# Altium footprint library Mercury_AD_BaseBoard_PCBLIB.PcbLib: 62 footprints (part 2 of 4)
Each footprint in its own frame and in the unit in brackets; x right, y up, seen from the top. Pads: shape width x height; smd on the part's side, far side on the other; paste and mask are expansions set on the pad; w line width, h text height; cw(c..) or ccw(c..) is an arc to the next point about the centre after c.
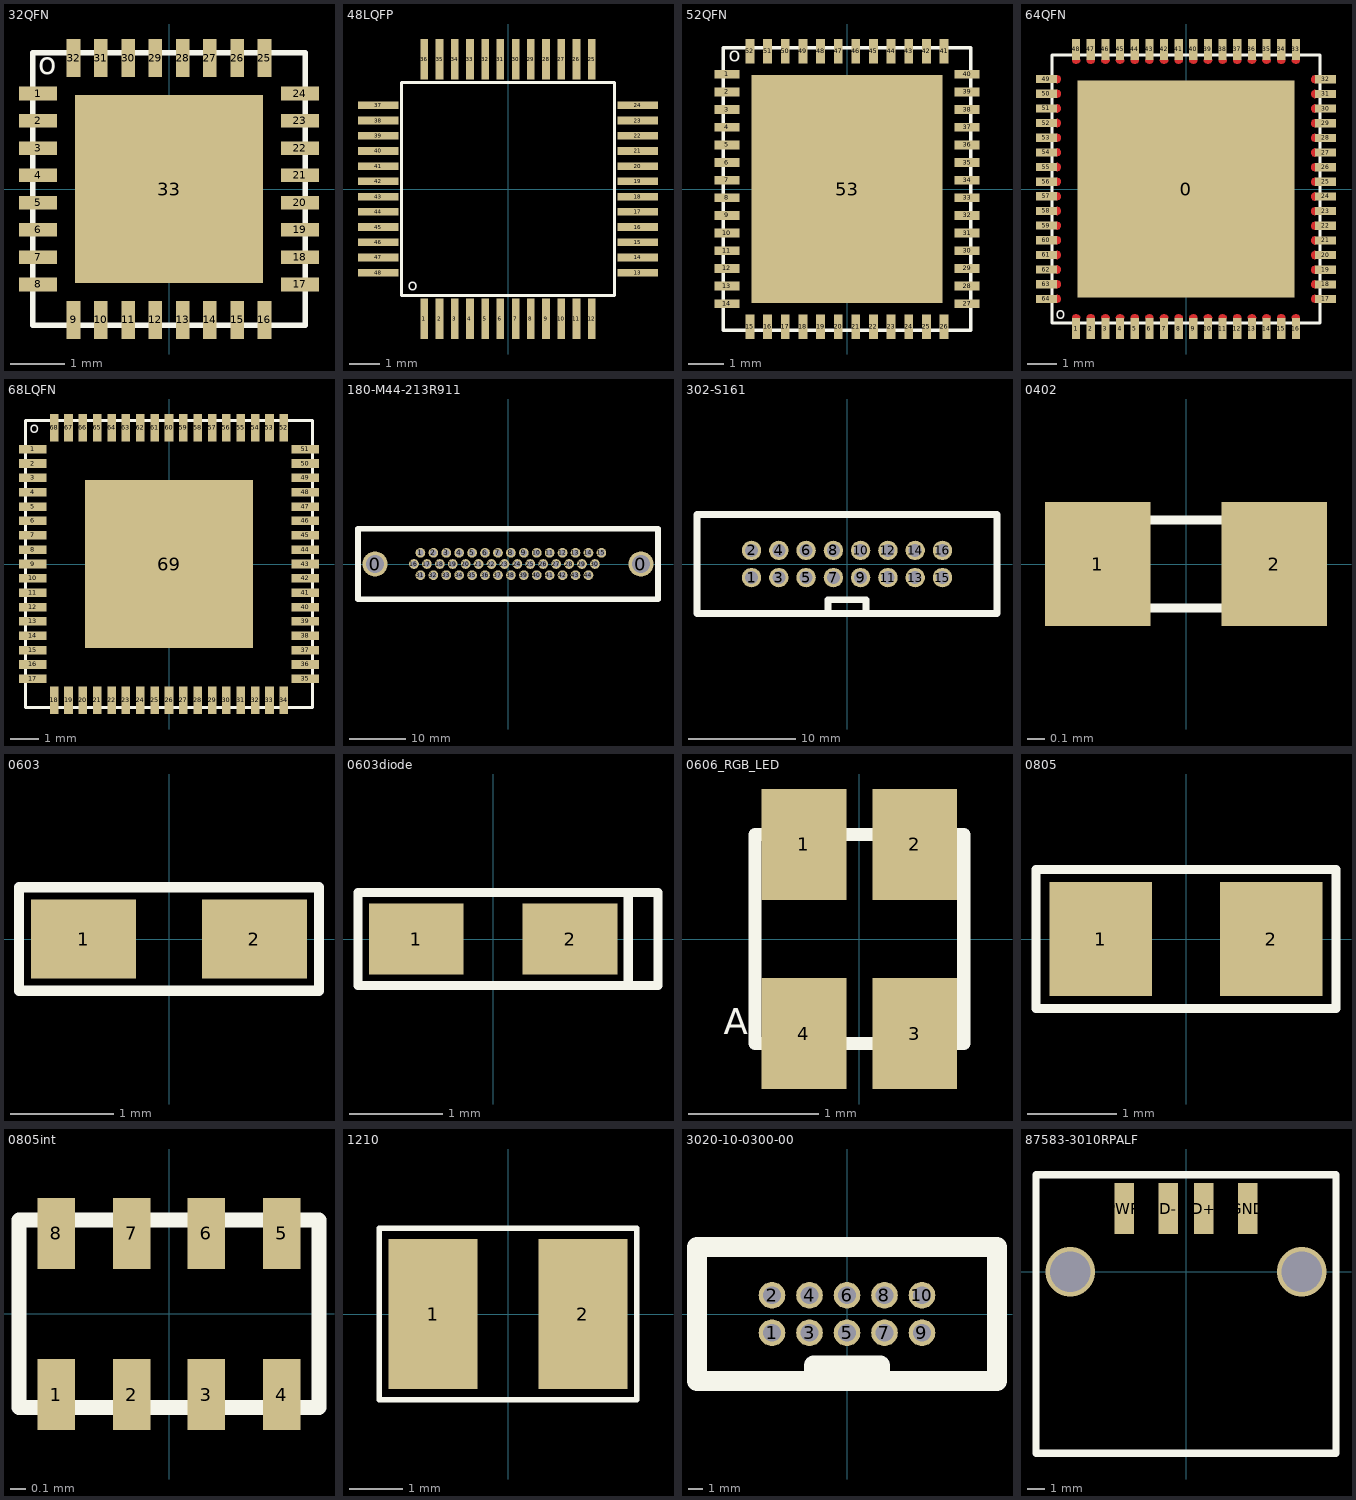
[diagram p1: the footprints below, top view; thin cyan lines are the x and y axes]

## 32QFN [mm]
pads (33):
  rect 0.7x0.25 smd mask+0.07: 1(-2.4,1.75) 2(-2.4,1.25) 3(-2.4,0.75) 4(-2.4,0.25) 5(-2.4,-0.25) 6(-2.4,-0.75) 7(-2.4,-1.25) 8(-2.4,-1.75) 17(2.4,-1.75) 18(2.4,-1.25) 19(2.4,-0.75) 20(2.4,-0.25) 21(2.4,0.25) 22(2.4,0.75) 23(2.4,1.25) 24(2.4,1.75)
  rect 0.25x0.7 smd mask+0.07: 9(-1.75,-2.4) 10(-1.25,-2.4) 11(-0.75,-2.4) 12(-0.25,-2.4) 13(0.25,-2.4) 14(0.75,-2.4) 15(1.25,-2.4) 16(1.75,-2.4) 25(1.75,2.4) 26(1.25,2.4) 27(0.75,2.4) 28(0.25,2.4) 29(-0.25,2.4) 30(-0.75,2.4) 31(-1.25,2.4) 32(-1.75,2.4)
  rect 3.45x3.45 smd mask+0.07: 33(0,0)
Top Overlay:
  lines w0.1: -2.5,-2.5 -2.5,2.5 2.5,2.5 2.5,-2.5 -2.5,-2.5
  text "o" at -2.4,2.1 h0.4

## 48LQFP [mm]
pads (48):
  rect 0.25x1.33 smd mask+0.07: 1(-2.75,-4.265) 2(-2.25,-4.265) 3(-1.75,-4.265) 4(-1.25,-4.265) 5(-0.75,-4.265) 6(-0.25,-4.265) 7(0.25,-4.265) 8(0.75,-4.265) 9(1.25,-4.265) 10(1.75,-4.265) 11(2.25,-4.265) 12(2.75,-4.265) 25(2.75,4.265) 26(2.25,4.265) 27(1.75,4.265) 28(1.25,4.265) 29(0.75,4.265) 30(0.25,4.265) 31(-0.25,4.265) 32(-0.75,4.265) 33(-1.25,4.265) 34(-1.75,4.265) 35(-2.25,4.265) 36(-2.75,4.265)
  rect 1.33x0.25 smd mask+0.07: 13(4.265,-2.75) 14(4.265,-2.25) 15(4.265,-1.75) 16(4.265,-1.25) 17(4.265,-0.75) 18(4.265,-0.25) 19(4.265,0.25) 20(4.265,0.75) 21(4.265,1.25) 22(4.265,1.75) 23(4.265,2.25) 24(4.265,2.75) 37(-4.265,2.75) 38(-4.265,2.25) 39(-4.265,1.75) 40(-4.265,1.25) 41(-4.265,0.75) 42(-4.265,0.25) 43(-4.265,-0.25) 44(-4.265,-0.75) 45(-4.265,-1.25) 46(-4.265,-1.75) 47(-4.265,-2.25) 48(-4.265,-2.75)
Top Overlay:
  lines w0.1: -3.5,-3.5 3.5,-3.5 3.5,3.5 -3.5,3.5 -3.5,-3.5
  text "o" at -3.3,-3.35 h0.4

## 52QFN [mm]
pads (53):
  rect 0.7x0.25 smd mask+0.07: 1(-3.4,3.25) 2(-3.4,2.75) 3(-3.4,2.25) 4(-3.4,1.75) 5(-3.4,1.25) 6(-3.4,0.75) 7(-3.4,0.25) 8(-3.4,-0.25) 9(-3.4,-0.75) 10(-3.4,-1.25) 11(-3.4,-1.75) 12(-3.4,-2.25) 13(-3.4,-2.75) 14(-3.4,-3.25) 27(3.4,-3.25) 28(3.4,-2.75) 29(3.4,-2.25) 30(3.4,-1.75) 31(3.4,-1.25) 32(3.4,-0.75) 33(3.4,-0.25) 34(3.4,0.25) 35(3.4,0.75) 36(3.4,1.25) 37(3.4,1.75) 38(3.4,2.25) 39(3.4,2.75) 40(3.4,3.25)
  rect 0.25x0.7 smd mask+0.07: 15(-2.75,-3.9) 16(-2.25,-3.9) 17(-1.75,-3.9) 18(-1.25,-3.9) 19(-0.75,-3.9) 20(-0.25,-3.9) 21(0.25,-3.9) 22(0.75,-3.9) 23(1.25,-3.9) 24(1.75,-3.9) 25(2.25,-3.9) 26(2.75,-3.9) 41(2.75,3.9) 42(2.25,3.9) 43(1.75,3.9) 44(1.25,3.9) 45(0.75,3.9) 46(0.25,3.9) 47(-0.25,3.9) 48(-0.75,3.9) 49(-1.25,3.9) 50(-1.75,3.9) 51(-2.25,3.9) 52(-2.75,3.9)
  rect 5.41x6.45 smd mask+0.07: 53(0,0)
Top Overlay:
  lines w0.1: -3.5,-4 3.5,-4 3.5,4 -3.5,4 -3.5,-4
  text "o" at -3.35,3.6 h0.4

## 64QFN [mm]
pads (65):
  rect 7.4x7.4 smd mask+0.07: 0(0,0)
  rect 0.28x0.71 smd mask+0.07: 1(-3.75,-4.765) 2(-3.25,-4.765) 3(-2.75,-4.765) 4(-2.25,-4.765) 5(-1.75,-4.765) 6(-1.25,-4.765) 7(-0.75,-4.765) 8(-0.25,-4.765) 9(0.25,-4.765) 10(0.75,-4.765) 11(1.25,-4.765) 12(1.75,-4.765) 13(2.25,-4.765) 14(2.75,-4.765) 15(3.25,-4.765) 16(3.75,-4.765) 33(3.75,4.765) 34(3.25,4.765) 35(2.75,4.765) 36(2.25,4.765) 37(1.75,4.765) 38(1.25,4.765) 39(0.75,4.765) 40(0.25,4.765) 41(-0.25,4.765) 42(-0.75,4.765) 43(-1.25,4.765) 44(-1.75,4.765) 45(-2.25,4.765) 46(-2.75,4.765) 47(-3.25,4.765) 48(-3.75,4.765)
  rect 0.71x0.28 smd mask+0.07: 17(4.765,-3.75) 18(4.765,-3.255) 19(4.765,-2.755) 20(4.765,-2.255) 21(4.765,-1.755) 22(4.765,-1.255) 23(4.765,-0.755) 24(4.765,-0.255) 25(4.765,0.245) 26(4.765,0.745) 27(4.765,1.245) 28(4.765,1.745) 29(4.765,2.245) 30(4.765,2.745) 31(4.765,3.245) 32(4.765,3.745) 49(-4.765,3.75) 50(-4.765,3.25) 51(-4.765,2.75) 52(-4.765,2.25) 53(-4.765,1.75) 54(-4.765,1.25) 55(-4.765,0.75) 56(-4.765,0.25) 57(-4.765,-0.25) 58(-4.765,-0.75) 59(-4.765,-1.25) 60(-4.765,-1.75) 61(-4.765,-2.25) 62(-4.765,-2.75) 63(-4.765,-3.25) 64(-4.765,-3.75)
Top Layer:
  region: -3.89,-4.41 -3.89,-4.382 -3.869,-4.331 -3.829,-4.291 -3.778,-4.27 -3.75,-4.27 -3.722,-4.27 -3.671,-4.291 -3.631,-4.331 -3.61,-4.382 -3.61,-4.41
  region: -3.39,-4.41 -3.39,-4.382 -3.369,-4.331 -3.329,-4.291 -3.278,-4.27 -3.25,-4.27 -3.222,-4.27 -3.171,-4.291 -3.131,-4.331 -3.11,-4.382 -3.11,-4.41
  region: -2.89,-4.41 -2.89,-4.382 -2.869,-4.331 -2.829,-4.291 -2.778,-4.27 -2.75,-4.27 -2.722,-4.27 -2.671,-4.291 -2.631,-4.331 -2.61,-4.382 -2.61,-4.41
  region: -2.39,-4.41 -2.39,-4.382 -2.369,-4.331 -2.329,-4.291 -2.278,-4.27 -2.25,-4.27 -2.222,-4.27 -2.171,-4.291 -2.131,-4.331 -2.11,-4.382 -2.11,-4.41
  region: -1.89,-4.41 -1.89,-4.382 -1.869,-4.331 -1.829,-4.291 -1.778,-4.27 -1.75,-4.27 -1.722,-4.27 -1.671,-4.291 -1.631,-4.331 -1.61,-4.382 -1.61,-4.41
  region: -1.39,-4.41 -1.39,-4.382 -1.369,-4.331 -1.329,-4.291 -1.278,-4.27 -1.25,-4.27 -1.222,-4.27 -1.171,-4.291 -1.131,-4.331 -1.11,-4.382 -1.11,-4.41
  region: -0.89,-4.41 -0.89,-4.382 -0.869,-4.331 -0.829,-4.291 -0.778,-4.27 -0.75,-4.27 -0.722,-4.27 -0.671,-4.291 -0.631,-4.331 -0.61,-4.382 -0.61,-4.41
  region: -0.39,-4.41 -0.39,-4.382 -0.369,-4.331 -0.329,-4.291 -0.278,-4.27 -0.25,-4.27 -0.222,-4.27 -0.171,-4.291 -0.131,-4.331 -0.11,-4.382 -0.11,-4.41
  region: 0.11,-4.41 0.11,-4.382 0.131,-4.331 0.171,-4.291 0.222,-4.27 0.25,-4.27 0.278,-4.27 0.329,-4.291 0.369,-4.331 0.39,-4.382 0.39,-4.41
  region: 0.61,-4.41 0.61,-4.382 0.631,-4.331 0.671,-4.291 0.722,-4.27 0.75,-4.27 0.778,-4.27 0.829,-4.291 0.869,-4.331 0.89,-4.382 0.89,-4.41
  region: 1.39,-4.41 1.39,-4.382 1.369,-4.331 1.329,-4.291 1.278,-4.27 1.25,-4.27 1.222,-4.27 1.171,-4.291 1.131,-4.331 1.11,-4.382 1.11,-4.41
  region: 1.89,-4.41 1.89,-4.382 1.869,-4.331 1.829,-4.291 1.778,-4.27 1.75,-4.27 1.722,-4.27 1.671,-4.291 1.631,-4.331 1.61,-4.382 1.61,-4.41
  region: 2.39,-4.41 2.39,-4.382 2.369,-4.331 2.329,-4.291 2.278,-4.27 2.25,-4.27 2.222,-4.27 2.171,-4.291 2.131,-4.331 2.11,-4.382 2.11,-4.41
  region: 2.89,-4.41 2.89,-4.382 2.869,-4.331 2.829,-4.291 2.778,-4.27 2.75,-4.27 2.722,-4.27 2.671,-4.291 2.631,-4.331 2.61,-4.382 2.61,-4.41
  region: 3.39,-4.41 3.39,-4.382 3.369,-4.331 3.329,-4.291 3.278,-4.27 3.25,-4.27 3.222,-4.27 3.171,-4.291 3.131,-4.331 3.11,-4.382 3.11,-4.41
  region: 3.89,-4.41 3.89,-4.382 3.869,-4.331 3.829,-4.291 3.778,-4.27 3.75,-4.27 3.722,-4.27 3.671,-4.291 3.631,-4.331 3.61,-4.382 3.61,-4.41
  region: 4.41,-3.61 4.382,-3.61 4.33,-3.633 4.29,-3.674 4.269,-3.727 4.27,-3.755 4.27,-3.782 4.292,-3.833 4.332,-3.87 4.383,-3.89 4.41,-3.89
  region: 4.41,-3.115 4.382,-3.115 4.33,-3.138 4.29,-3.179 4.269,-3.232 4.27,-3.26 4.27,-3.287 4.292,-3.338 4.332,-3.375 4.383,-3.395 4.41,-3.395
  region: 4.41,-2.615 4.382,-2.615 4.33,-2.638 4.29,-2.679 4.269,-2.732 4.27,-2.76 4.27,-2.787 4.292,-2.838 4.332,-2.875 4.383,-2.895 4.41,-2.895
  region: 4.41,-2.115 4.382,-2.115 4.33,-2.138 4.29,-2.179 4.269,-2.232 4.27,-2.26 4.27,-2.287 4.292,-2.338 4.332,-2.375 4.383,-2.395 4.41,-2.395
  region: 4.41,-1.615 4.382,-1.615 4.33,-1.638 4.29,-1.679 4.269,-1.732 4.27,-1.76 4.27,-1.787 4.292,-1.838 4.332,-1.875 4.383,-1.895 4.41,-1.895
  region: 4.41,-1.115 4.382,-1.115 4.33,-1.138 4.29,-1.179 4.269,-1.232 4.27,-1.26 4.27,-1.287 4.292,-1.338 4.332,-1.375 4.383,-1.395 4.41,-1.395
  region: 4.41,-0.615 4.382,-0.615 4.33,-0.638 4.29,-0.679 4.269,-0.732 4.27,-0.76 4.27,-0.787 4.292,-0.838 4.332,-0.875 4.383,-0.895 4.41,-0.895
  region: 4.41,-0.115 4.382,-0.115 4.33,-0.138 4.29,-0.179 4.269,-0.232 4.27,-0.26 4.27,-0.287 4.292,-0.338 4.332,-0.375 4.383,-0.395 4.41,-0.395
  region: 4.41,0.385 4.382,0.385 4.33,0.362 4.29,0.321 4.269,0.268 4.27,0.24 4.27,0.213 4.292,0.162 4.332,0.125 4.383,0.105 4.41,0.105
  region: 4.41,0.885 4.382,0.885 4.33,0.862 4.29,0.821 4.269,0.768 4.27,0.74 4.27,0.713 4.292,0.662 4.332,0.625 4.383,0.605 4.41,0.605
  region: 4.41,1.385 4.382,1.385 4.33,1.362 4.29,1.321 4.269,1.268 4.27,1.24 4.27,1.213 4.292,1.162 4.332,1.125 4.383,1.105 4.41,1.105
  region: 4.41,1.885 4.382,1.885 4.33,1.862 4.29,1.821 4.269,1.768 4.27,1.74 4.27,1.713 4.292,1.662 4.332,1.625 4.383,1.605 4.41,1.605
  region: 4.41,2.385 4.382,2.385 4.33,2.362 4.29,2.321 4.269,2.268 4.27,2.24 4.27,2.213 4.292,2.162 4.332,2.125 4.383,2.105 4.41,2.105
  region: 4.41,2.885 4.382,2.885 4.33,2.862 4.29,2.821 4.269,2.768 4.27,2.74 4.27,2.713 4.292,2.662 4.332,2.625 4.383,2.605 4.41,2.605
  region: 4.41,3.385 4.382,3.385 4.33,3.362 4.29,3.321 4.269,3.268 4.27,3.24 4.27,3.213 4.292,3.162 4.332,3.125 4.383,3.105 4.41,3.105
  region: 4.41,3.885 4.382,3.885 4.33,3.862 4.29,3.821 4.269,3.768 4.27,3.74 4.27,3.713 4.292,3.662 4.332,3.625 4.383,3.605 4.41,3.605
  region: -3.89,4.41 -3.89,4.382 -3.869,4.331 -3.829,4.291 -3.778,4.27 -3.75,4.27 -3.722,4.27 -3.671,4.291 -3.631,4.331 -3.61,4.382 -3.61,4.41
  region: -3.39,4.41 -3.39,4.382 -3.369,4.331 -3.329,4.291 -3.278,4.27 -3.25,4.27 -3.222,4.27 -3.171,4.291 -3.131,4.331 -3.11,4.382 -3.11,4.41
  region: -2.89,4.41 -2.89,4.382 -2.869,4.331 -2.829,4.291 -2.778,4.27 -2.75,4.27 -2.722,4.27 -2.671,4.291 -2.631,4.331 -2.61,4.382 -2.61,4.41
  region: -2.39,4.41 -2.39,4.382 -2.369,4.331 -2.329,4.291 -2.278,4.27 -2.25,4.27 -2.222,4.27 -2.171,4.291 -2.131,4.331 -2.11,4.382 -2.11,4.41
  region: -1.89,4.41 -1.89,4.382 -1.869,4.331 -1.829,4.291 -1.778,4.27 -1.75,4.27 -1.722,4.27 -1.671,4.291 -1.631,4.331 -1.61,4.382 -1.61,4.41
  region: -1.39,4.41 -1.39,4.382 -1.369,4.331 -1.329,4.291 -1.278,4.27 -1.25,4.27 -1.222,4.27 -1.171,4.291 -1.131,4.331 -1.11,4.382 -1.11,4.41
  region: -0.89,4.41 -0.89,4.382 -0.869,4.331 -0.829,4.291 -0.778,4.27 -0.75,4.27 -0.722,4.27 -0.671,4.291 -0.631,4.331 -0.61,4.382 -0.61,4.41
  region: -0.39,4.41 -0.39,4.382 -0.369,4.331 -0.329,4.291 -0.278,4.27 -0.25,4.27 -0.222,4.27 -0.171,4.291 -0.131,4.331 -0.11,4.382 -0.11,4.41
  region: 0.11,4.41 0.11,4.382 0.131,4.331 0.171,4.291 0.222,4.27 0.25,4.27 0.278,4.27 0.329,4.291 0.369,4.331 0.39,4.382 0.39,4.41
  region: 0.61,4.41 0.61,4.382 0.631,4.331 0.671,4.291 0.722,4.27 0.75,4.27 0.778,4.27 0.829,4.291 0.869,4.331 0.89,4.382 0.89,4.41
  region: 1.11,4.41 1.11,4.382 1.131,4.331 1.171,4.291 1.222,4.27 1.25,4.27 1.278,4.27 1.329,4.291 1.369,4.331 1.39,4.382 1.39,4.41
  region: 1.61,4.41 1.61,4.382 1.631,4.331 1.671,4.291 1.722,4.27 1.75,4.27 1.778,4.27 1.829,4.291 1.869,4.331 1.89,4.382 1.89,4.41
  region: 2.11,4.41 2.11,4.382 2.131,4.331 2.171,4.291 2.222,4.27 2.25,4.27 2.278,4.27 2.329,4.291 2.369,4.331 2.39,4.382 2.39,4.41
  region: 2.61,4.41 2.61,4.382 2.631,4.331 2.671,4.291 2.722,4.27 2.75,4.27 2.778,4.27 2.829,4.291 2.869,4.331 2.89,4.382 2.89,4.41
  region: 3.11,4.41 3.11,4.382 3.131,4.331 3.171,4.291 3.222,4.27 3.25,4.27 3.278,4.27 3.329,4.291 3.369,4.331 3.39,4.382 3.39,4.41
  region: 3.61,4.41 3.61,4.382 3.631,4.331 3.671,4.291 3.722,4.27 3.75,4.27 3.778,4.27 3.829,4.291 3.869,4.331 3.89,4.382 3.89,4.41
  region: -4.41,-3.61 -4.382,-3.61 -4.331,-3.631 -4.291,-3.671 -4.27,-3.722 -4.27,-3.75 -4.27,-3.778 -4.291,-3.829 -4.331,-3.869 -4.382,-3.89 -4.41,-3.89
  region: -4.41,-3.11 -4.382,-3.11 -4.331,-3.131 -4.291,-3.171 -4.27,-3.222 -4.27,-3.25 -4.27,-3.278 -4.291,-3.329 -4.331,-3.369 -4.382,-3.39 -4.41,-3.39
  region: -4.41,-2.61 -4.382,-2.61 -4.331,-2.631 -4.291,-2.671 -4.27,-2.722 -4.27,-2.75 -4.27,-2.778 -4.291,-2.829 -4.331,-2.869 -4.382,-2.89 -4.41,-2.89
  region: -4.41,-2.11 -4.382,-2.11 -4.331,-2.131 -4.291,-2.171 -4.27,-2.222 -4.27,-2.25 -4.27,-2.278 -4.291,-2.329 -4.331,-2.369 -4.382,-2.39 -4.41,-2.39
  region: -4.41,-1.61 -4.382,-1.61 -4.331,-1.631 -4.291,-1.671 -4.27,-1.722 -4.27,-1.75 -4.27,-1.778 -4.291,-1.829 -4.331,-1.869 -4.382,-1.89 -4.41,-1.89
  region: -4.41,-1.11 -4.382,-1.11 -4.331,-1.131 -4.291,-1.171 -4.27,-1.222 -4.27,-1.25 -4.27,-1.278 -4.291,-1.329 -4.331,-1.369 -4.382,-1.39 -4.41,-1.39
  region: -4.41,-0.61 -4.382,-0.61 -4.331,-0.631 -4.291,-0.671 -4.27,-0.722 -4.27,-0.75 -4.27,-0.778 -4.291,-0.829 -4.331,-0.869 -4.382,-0.89 -4.41,-0.89
  region: -4.41,-0.11 -4.382,-0.11 -4.331,-0.131 -4.291,-0.171 -4.27,-0.222 -4.27,-0.25 -4.27,-0.278 -4.291,-0.329 -4.331,-0.369 -4.382,-0.39 -4.41,-0.39
  region: -4.41,0.39 -4.382,0.39 -4.331,0.369 -4.291,0.329 -4.27,0.278 -4.27,0.25 -4.27,0.222 -4.291,0.171 -4.331,0.131 -4.382,0.11 -4.41,0.11
  region: -4.41,0.89 -4.382,0.89 -4.331,0.869 -4.291,0.829 -4.27,0.778 -4.27,0.75 -4.27,0.722 -4.291,0.671 -4.331,0.631 -4.382,0.61 -4.41,0.61
  region: -4.41,1.39 -4.382,1.39 -4.331,1.369 -4.291,1.329 -4.27,1.278 -4.27,1.25 -4.27,1.222 -4.291,1.171 -4.331,1.131 -4.382,1.11 -4.41,1.11
  region: -4.41,1.89 -4.382,1.89 -4.331,1.869 -4.291,1.829 -4.27,1.778 -4.27,1.75 -4.27,1.722 -4.291,1.671 -4.331,1.631 -4.382,1.61 -4.41,1.61
  region: -4.41,2.39 -4.382,2.39 -4.331,2.369 -4.291,2.329 -4.27,2.278 -4.27,2.25 -4.27,2.222 -4.291,2.171 -4.331,2.131 -4.382,2.11 -4.41,2.11
  region: -4.41,2.89 -4.382,2.89 -4.331,2.869 -4.291,2.829 -4.27,2.778 -4.27,2.75 -4.27,2.722 -4.291,2.671 -4.331,2.631 -4.382,2.61 -4.41,2.61
  region: -4.41,3.39 -4.382,3.39 -4.331,3.369 -4.291,3.329 -4.27,3.278 -4.27,3.25 -4.27,3.222 -4.291,3.171 -4.331,3.131 -4.382,3.11 -4.41,3.11
  region: -4.41,3.89 -4.382,3.89 -4.331,3.869 -4.291,3.829 -4.27,3.778 -4.27,3.75 -4.27,3.722 -4.291,3.671 -4.331,3.631 -4.382,3.61 -4.41,3.61
Top Overlay:
  lines w0.1: -4.575,-4.575 -4.575,4.575 4.575,4.575 4.575,-4.575 -4.575,-4.575
  text "o" at -4.45,-4.45 h0.4

## 68LQFN [mm]
pads (69):
  rect 0.95x0.3 smd mask+0.07: 1(-4.75,4) 2(-4.75,3.5) 3(-4.75,3) 4(-4.75,2.5) 5(-4.75,2) 6(-4.75,1.5) 7(-4.75,1) 8(-4.75,0.5) 9(-4.75,0) 10(-4.75,-0.5) 11(-4.75,-1) 12(-4.75,-1.5) 13(-4.75,-2) 14(-4.75,-2.5) 15(-4.75,-3) 16(-4.75,-3.5) 17(-4.75,-4) 35(4.75,-4) 36(4.75,-3.5) 37(4.75,-3) 38(4.75,-2.5) 39(4.75,-2) 40(4.75,-1.5) 41(4.75,-1) 42(4.75,-0.5) 43(4.75,0) 44(4.75,0.5) 45(4.75,1) 46(4.75,1.5) 47(4.75,2) 48(4.75,2.5) 49(4.75,3) 50(4.75,3.5) 51(4.75,4)
  rect 0.3x0.95 smd mask+0.07: 18(-4,-4.75) 19(-3.5,-4.75) 20(-3,-4.75) 21(-2.5,-4.75) 22(-2,-4.75) 23(-1.5,-4.75) 24(-1,-4.75) 25(-0.5,-4.75) 26(0,-4.75) 27(0.5,-4.75) 28(1,-4.75) 29(1.5,-4.75) 30(2,-4.75) 31(2.5,-4.75) 32(3,-4.75) 33(3.5,-4.75) 34(4,-4.75) 52(4,4.75) 53(3.5,4.75) 54(3,4.75) 55(2.5,4.75) 56(2,4.75) 57(1.5,4.75) 58(1,4.75) 59(0.5,4.75) 60(0,4.75) 61(-0.5,4.75) 62(-1,4.75) 63(-1.5,4.75) 64(-2,4.75) 65(-2.5,4.75) 66(-3,4.75) 67(-3.5,4.75) 68(-4,4.75)
  rect 5.85x5.85 smd mask+0.07: 69(0,0)
Top Overlay:
  lines w0.1: -5,-5 5,-5 5,5 -5,5 -5,-5
  text "o" at -4.85,4.55 h0.4

## 180-M44-213R911 [mil]
pads (46):
  round 175 hole 125.98: 0(-926,0) 0(926,0)
  round 67.99 hole 43: 1(-610,78) 2(-520,78) 3(-430,78) 4(-340,78) 5(-250,78) 6(-160,78) 7(-70,78) 8(20,78) 9(110,78) 10(200,78) 11(290,78) 12(380,78) 13(470,78) 14(560,78) 15(650,78) 16(-655,0) 17(-565,0) 18(-475,0) 19(-385,0) 20(-295,0) 21(-205,0) 22(-115,0) 23(-25,0) 24(65,0) 25(155,0) 26(245,0) 27(335,0) 28(425,0) 29(515,0) 30(605,0) 31(-610,-78) 32(-520,-78) 33(-430,-78) 34(-340,-78) 35(-250,-78) 36(-160,-78) 37(-70,-78) 38(20,-78) 39(110,-78) 40(200,-78) 41(290,-78) 42(380,-78) 43(470,-78) 44(560,-78)
Top Overlay:
  lines w39.37: -1044.5,-246 1044.5,-246 1044.5,246 -1044.5,246 -1044.5,-246

## 302-S161 [mm]
pads (16):
  round 1.8 hole 1.2: 1(-8.89,-1.27) 2(-8.89,1.27) 3(-6.35,-1.27) 4(-6.35,1.27) 5(-3.81,-1.27) 6(-3.81,1.27) 7(-1.27,-1.27) 8(-1.27,1.27) 9(1.27,-1.27) 10(1.27,1.27) 11(3.81,-1.27) 12(3.81,1.27) 13(6.35,-1.27) 14(6.35,1.27) 15(8.89,-1.27) 16(8.89,1.27)
Top Overlay:
  lines w0.635: -1.778,-4.6 -1.778,-3.33 1.778,-3.33 1.778,-4.6 ; -13.97,-4.6 13.97,-4.6 13.97,4.6 -13.97,4.6 -13.97,-4.6

## 0402 [mm]
pads (2):
  rect 0.6x0.7 smd: 1(-0.5,0) 2(0.5,0)
Top Overlay:
  lines w0.05: -0.5,-0.25 0.5,-0.25 0.5,0.25 -0.5,0.25 -0.5,-0.25

## 0603 [mil]
pads (2):
  rect 40x30 smd mask+2.76: 1(-32.5,0) 2(32.5,0)
Top Overlay:
  lines w3.94: -57.09,-19.68 -57.09,19.68 57.09,19.68 57.09,-19.68 -57.09,-19.68

## 0603diode [mil]
pads (2):
  rect 40x30 smd mask+2.76: 1(-32.5,0) 2(32.5,0)
Top Overlay:
  lines w3.94: 57.09,-19.68 57.09,19.68 ; -57.09,-19.68 -57.09,19.68 69.69,19.68 69.69,-19.68 -57.09,-19.68

## 0606_RGB_LED [mm]
pads (4):
  rect 0.65x0.85 smd mask+0.07: 1(-0.425,0.725) 2(0.425,0.725) 3(0.425,-0.725) 4(-0.425,-0.725)
Top Overlay:
  lines w0.1: -0.8,-0.8 0.8,-0.8 0.8,0.8 -0.8,0.8 -0.8,-0.8
  text "A" at -1.04,-0.73 h0.2

## 0805 [mil]
pads (2):
  rect 45x50 smd mask+2.76: 1(-37.5,0) 2(37.5,0)
Top Overlay:
  lines w3.94: -65.94,-30.51 65.94,-30.51 65.94,30.51 -65.94,30.51 -65.94,-30.51

## 0805int [mm]
pads (8):
  rect 0.25x0.475 smd mask+0.07: 1(-0.75,-0.537) 2(-0.25,-0.537) 3(0.25,-0.537) 4(0.75,-0.537) 5(0.75,0.537) 6(0.25,0.537) 7(-0.25,0.537) 8(-0.75,0.537)
Top Overlay:
  lines w0.1: -1,-0.625 1,-0.625 1,0.625 -1,0.625 -1,-0.625

## 1210 [mil]
pads (2):
  rect 65x110 smd mask+2.76: 1(-55,0) 2(55,0)
Top Overlay:
  lines w3.94: -94.49,-62.99 94.49,-62.99 94.49,62.99 -94.49,62.99 -94.49,-62.99

## 3020-10-0300-00 [mm] "10 pin shrouded connector"
pads (10):
  round 1.8 hole 1.2: 1(-5.08,-1.27) 2(-5.08,1.27) 3(-2.54,-1.27) 4(-2.54,1.27) 5(0,-1.27) 6(0,1.27) 7(2.54,-1.27) 8(2.54,1.27) 9(5.08,-1.27) 10(5.08,1.27)
Top Overlay:
  lines w1.35: -2.25,-4.55 -2.25,-3.5 2.25,-3.5 2.25,-4.55 ; -10.16,-4.55 -10.16,4.55 10.16,4.55 10.16,-4.55 -10.16,-4.55

## 87583-3010RPALF [mm]
pads (4):
  rect 1.12x2.88 smd mask+0.07: D+(1,3.58) D-(-1,3.58) GND(3.5,3.58) PWR(-3.5,3.58)
via -6.57,0 diameter 2.8 hole 2.3
via 6.57,0 diameter 2.8 hole 2.3
Top Overlay:
  lines w0.4: -8.5,-10.28 -8.5,5.5 8.5,5.5 8.5,-10.28 -8.5,-10.28